# Altium schematic symbol library VCA820ID.SchLib: 1 symbol
Pins are listed as number, name and electrical type; pins without a type are passive.

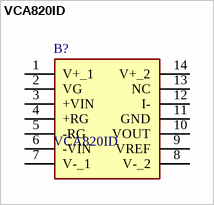
[diagram p0: symbol VCA820ID]

## VCA820ID
designator B?
150MHz BW with linear in dB gain control variable gain amplifier; Manufacturer_Name: Texas Instruments; Geometry.Height: 1.75mm; Mouser Part Number: 595-VCA820ID; Mouser Price/Stock: https://www.mouser.co.uk/ProductDetail/Texas-Instruments/VCA820ID?qs=lqm1LiGWV1%252B%2FxLsKic6RDQ%3D%3D; Manufacturer_Part_Number: VCA820ID; Datasheet Link: http://www.ti.com/lit/gpn/vca820
footprint SOIC127P600X175-14N
pins: 1 V+_1, 2 VG, 3 +VIN, 4 +RG, 5 -RG, 6 -VIN, 7 V-_1, 8 V-_2, 9 VREF, 10 VOUT, 11 GND, 12 I-, 13 NC, 14 V+_2